# Altium schematic symbol library kabels en conectoren.SchLib: 1 symbol
Pins are listed as number, name and electrical type; pins without a type are passive.

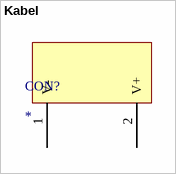
[diagram p0: symbol Kabel]

## Kabel
designator CON?
footprint Conector Voeding
pins: 1 V-, 2 V+